# Altium schematic symbol library SCH - ECMF - ST ECMF2-40A100N6.SchLib: 1 symbol
Pins are listed as number, name and electrical type; pins without a type are passive.

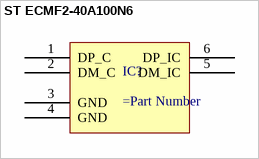
[diagram p0: symbol ST ECMF2-40A100N6]

## ST ECMF2-40A100N6
designator IC?
pins: 1 DP_C, 2 DM_C, 3 GND, 4 GND, 5 DM_IC, 6 DP_IC